# Altium schematic symbol library Molex 76825-0006.SchLib: 1 symbol
Pins are listed as number, name and electrical type; pins without a type are passive.

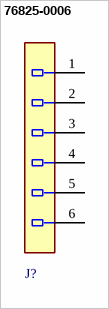
[diagram p0: symbol 76825-0006]

## 76825-0006
designator J?  (value not drawn)
pins: 1, 2, 3, 4, 5, 6